# EAGLE library part SHF-108-01-L-D-SM (library SHF-108-01-L-D-SM)
Shrouded Terminal Strip, 0.050" pitch Source: Datasheet <https://www.samtec.com/partnumber/SHF-108-01-L-D-SM>
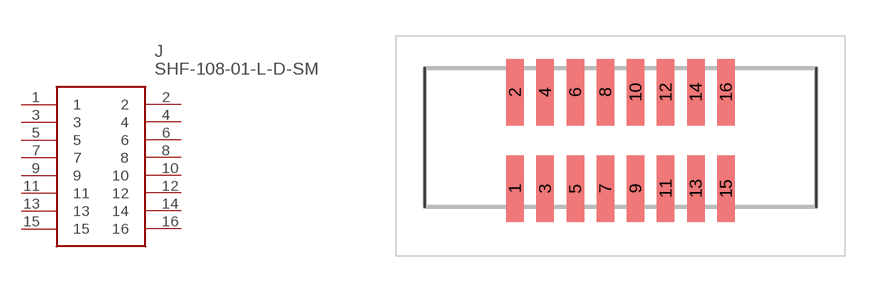
[diagram p0: symbol with the pads of SHF-108-01-X-D-SM; footprint SHF-108-01-X-D-SM]

Designator prefix J

## SHF-108-01-L-D-SM (Description: Shrouded Terminal Strip, 0.050" pitch; Height: mm; Manufacturer_Name: SAMTEC; Manufacturer_Part_Number: SHF-108-01-L-D-SM; Mouser_Part_Number: 200-SHF10801LDSM; Mouser_Price-Stock: https://www.mouser.co.uk/ProductDetail/Samtec/SHF-108-01-L-D-SM?qs=%252BZP6%2F%252BtExtAjkv5kwhbS6w%3D%3D)  [SHF-108-01-X-D-SM]
1  1
2  2
3  3
4  4
5  5
6  6
7  7
8  8
9  9
10  10
11  11
12  12
13  13
14  14
15  15
16  16

## Footprint SHF-108-01-X-D-SM (pad centres in mm)
SHF-108-01-X-D-SM
smd 0.74 x 2.795: 1 -4.445,-2.033; 2 -4.445,2.033; 3 -3.175,-2.033; 4 -3.175,2.033; 5 -1.905,-2.033; 6 -1.905,2.033; 7 -0.635,-2.033; 8 -0.635,2.033; 9 0.635,-2.033; 10 0.635,2.033; 11 1.905,-2.033; 12 1.905,2.033; 13 3.175,-2.033; 14 3.175,2.033; 15 4.445,-2.033; 16 4.445,2.033